# Altium footprint library PowerBoard.PcbLib: 23 footprints (part 2 of 2)
Each footprint in its own frame and in the unit in brackets; x right, y up, seen from the top. Pads: shape width x height; smd on the part's side, far side on the other; paste and mask are expansions set on the pad; w line width, h text height; cw(c..) or ccw(c..) is an arc to the next point about the centre after c.
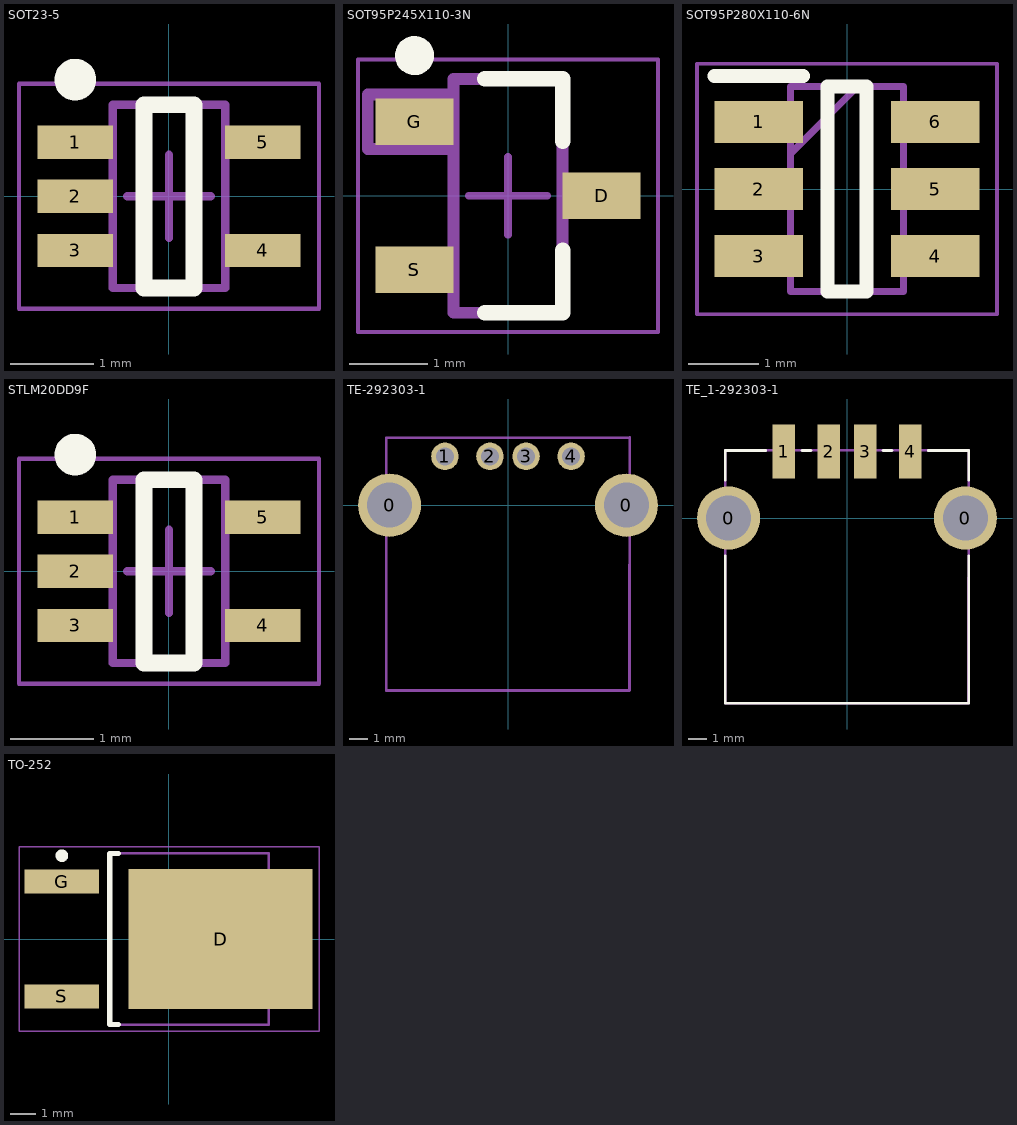
[diagram p1: the footprints below, top view; thin cyan lines are the x and y axes]

## SOT23-5 [mm] "SOT23, 5-Leads, Body 2,00x2,10mm, Pitch 0,65mm, IPC Medium Density"
height 1
pads (5):
  rect 0.9x0.4 smd: 1(-1.125,0.65) 2(-1.125,0) 3(-1.125,-0.65) 4(1.125,-0.65) 5(1.125,0.65)
Top Overlay:
  circle w0.25: c-1.125,1.4 r0.125
  lines w0.2: -0.3,-1.1 -0.3,1.1 0.3,1.1 0.3,-1.1 -0.3,-1.1
Top Assembly:
  lines w0.1: -0.675,-1.1 0.675,-1.1 0.675,1.1 -0.675,1.1 -0.675,-1.1
Mechanical 15:
  lines w0.05: -1.8,-1.35 1.8,-1.35 1.8,1.35 -1.8,1.35 -1.8,-1.35
  lines w0.1: -0.5,0 0.5,0 ; 0,-0.5 0,0.5
3D body "SOT23-5.step": height 1, standoff 0, extent -1.2,-1.1 1.2,1.1

## SOT95P245X110-3N [mm] "SOT23, 3-Leads, Body 2,90x2,45mm, Pitch 0,95mm, IPC Medium Density"
height 1.1
pads (3):
  rect 1x0.6 smd: D(1.2,0) G(-1.2,0.95) S(-1.2,-0.95)
Top Overlay:
  circle w0.25: c-1.2,1.8 r0.125
  lines w0.2: -0.3,-1.5 0.7,-1.5 0.7,-0.7 ; -0.3,1.5 0.7,1.5 0.7,0.7
Top Assembly:
  lines w0.15: -1.8,0.6 -0.7,0.6 -0.7,1.3 -1.8,1.3 -1.8,0.6 ; -0.7,-1.5 -0.7,1.5 0.7,1.5 0.7,-1.5 -0.7,-1.5
Mechanical 15:
  lines w0.05: -1.925,-1.75 -1.925,1.75 1.925,1.75 1.925,-1.75 -1.925,-1.75
  lines w0.1: -0.5,0 0.5,0 ; 0,-0.5 0,0.5
3D body "SOT23-3.stp": height 1.2, standoff 0.02, extent -1.418,-1.5 1.418,1.5

## SOT95P280X110-6N [mm]
pads (6):
  rect 1.25x0.6 smd: 1(-1.25,0.95) 2(-1.25,0) 3(-1.25,-0.95) 4(1.25,-0.95) 5(1.25,0) 6(1.25,0.95)
Top Overlay:
  lines w0.2: -1.875,1.6 -0.625,1.6 ; -0.275,-1.45 0.275,-1.45 0.275,1.45 -0.275,1.45 -0.275,-1.45
Top 3D Body:
  lines w0.1: -0.8,0.5 0.15,1.45 ; -0.8,-1.45 0.8,-1.45 0.8,1.45 -0.8,1.45 -0.8,-1.45
Mechanical 15:
  lines w0.05: -2.125,-1.775 2.125,-1.775 2.125,1.775 -2.125,1.775 -2.125,-1.775
3D body "TPS54202DDCR.stp": height 1.1, standoff 0, extent -1.4,-1.45 1.4,1.45

## STLM20DD9F [mm] "SOT23, 5-Leads, Body 2,00x2,10mm, Pitch 0,65mm, IPC Medium Density"
height 1
pads (5):
  rect 0.9x0.4 smd: 1(-1.125,0.65) 2(-1.125,0) 3(-1.125,-0.65) 4(1.125,-0.65) 5(1.125,0.65)
Top Overlay:
  circle w0.25: c-1.125,1.4 r0.125
  lines w0.2: -0.3,-1.1 0.3,-1.1 0.3,1.1 -0.3,1.1 -0.3,-1.1
Top Assembly:
  lines w0.1: -0.675,-1.1 -0.675,1.1 0.675,1.1 0.675,-1.1 -0.675,-1.1
Mechanical 15:
  lines w0.05: -1.8,-1.35 -1.8,1.35 1.8,1.35 1.8,-1.35 -1.8,-1.35
  lines w0.1: -0.5,0 0.5,0 ; 0,-0.5 0,0.5
3D body: height 1, standoff 0.05, extent -0.675,-1.1 0.675,1.1
3D body "SOT23-5_small.STEP": height 1.2, standoff 0.02, extent -1.418,-1.3 1.418,1.3

## TE-292303-1 [mm]
pads (6):
  round 3.5 hole 2.5: 0(-6.57,0) 0(6.57,0)
  round 1.524 hole 1: 1(-3.5,2.71) 2(-1,2.71) 3(1,2.71) 4(3.5,2.71)
Top Assembly:
  lines w0.15: -6.75,-10.28 -6.75,3.749 6.752,3.757 6.736,-10.28 -6.75,-10.28
3D body "TE-292303-1.STEP": height 7.45, standoff -3.94, extent -7.85,-10.35 7.85,3.8

## TE_1-292303-1 [mm]
height 7
pads (6):
  round 3.5 hole 2.5: 0(-6.57,0) 0(6.57,0)
  rect 1.25x3 smd: 1(-3.5,3.68) 2(-1,3.68) 3(1,3.68) 4(3.5,3.68)
Top Overlay:
  lines w0.15: -6.75,-10.28 6.75,-10.28 ; -6.75,-10.25 -6.75,-2.1 ; -6.75,2.1 -6.75,3.72 ; -6.75,3.75 -4.75,3.75 -4.5,3.75 ; -2.5,3.75 -2,3.75 ; 2,3.75 2.5,3.75 ; 4.5,3.75 6.75,3.75 ; 6.75,-10.25 6.75,-2.1 ; 6.75,2.1 6.75,3.72
Top Assembly:
  lines w0.15: -6.75,-10.28 6.736,-10.28 6.752,3.757 -6.75,3.749 -6.75,-10.28
3D body "c-1-292303-1-e-3d.stp": height 7.77, standoff -3.59, extent -8.115,-10.28 8.117,4.88

## TO-252 [mm] "D-PAK, 3-Pads, Body 6,25x6,76mm (max), IPC Medium Density"
height 2.5
pads (3):
  rect 7.3x5.55 smd: D(2.05,0)
  rect 2.95x0.95 smd: G(-4.25,2.28) S(-4.25,-2.28)
Top Overlay:
  circle w0.25: c-4.25,3.305 r0.125
  lines w0.2: -2,-3.4 -2.35,-3.4 -2.35,3.4 -2,3.4
Top Assembly:
  lines w0.1: -2.35,-3.4 -2.35,3.4 3.95,3.4 3.95,-3.4 -2.35,-3.4
Mechanical 15:
  lines w0.05: -5.95,-3.65 -5.95,3.65 5.95,3.65 5.95,-3.65 -5.95,-3.65
  lines w0.1: -0.5,0 0.5,0 ; 0,-0.5 0,0.5
3D body "TO-252.step": height 2.9, standoff 0, extent -4.655,-3.4 5.445,3.4